# Altium schematic symbol library ECS-250-6-37QZ-RES-TR.Schlib: 1 symbol
Pins are listed as number, name and electrical type; pins without a type are passive.

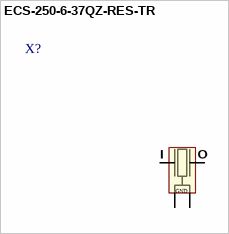
[diagram p0: symbol ECS-250-6-37QZ-RES-TR]

## ECS-250-6-37QZ-RES-TR
designator X?
Oscillator
pins: 1, 2 (power), 3, 4 (power)
text: I; O; GND